# EAGLE library part 691386700009 (library Eagle_WR-TBL Pluggable Connector (rev21a))
WR-TBL Serie 386 - 5.00 mm Male PCB Header-Horizontal/Vertical Header Divisible KIND PROPERTIES Pitch 5 mm MATERIAL PROPERTIES Insulator Material PC Insulator Flammability Rating UL94 V-0 Contact Material Copper Alloy Contact Plating Tin over Nickel GENERAL INFORMATION Operating Temperature -30 up to +120 °C Compliance RoHS ELECTRICAL PROPERTIES IR UL 14 A IR VDE 16 A Working Voltage [UL] 300 V (AC) Working Voltage [VDE] 250 V (AC) Withstanding Voltage [cULus] 1600 V (AC) Withstanding Voltage [VDE] 2500 V (AC) Contact Resistance [cULus] 20 mΩ Contact Resistance [VDE] 20 mΩ CERTIFICATION cULus Approval E315414 VDE Approval 40023195 <https://www.we-online.com/catalog/media/o55398v209%20Family_WR-TBL_Serie_386_6913867000xx.jpg> Details see: https://www.we-online.com/catalog/en/TBL_5_00_386_HORIZONTAL_VERTICAL_HEADER_DIVISIBLE_MALE_PCB_HEADER_6913867000XX/ Updated by Ella Wu 2019-12-24 2019(C) Wurth Elektronik
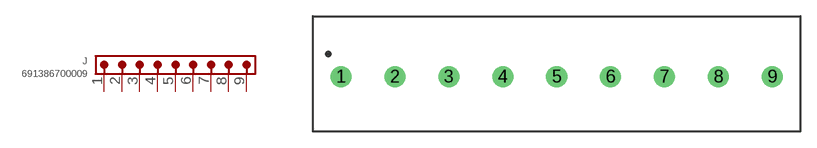
[diagram p203: symbol with the pads of 691386700009; footprint 691386700009]

Designator prefix J

## 691386700009 (DATASHEET-URL: https://www.we-online.com/catalog/datasheet/691386700009.pdf; IR-UL: 14A; IR-VDE: 16A; MOUNT: THT; PART-NUMBER: 691386700009; PINS: 9; PITCH: 5mm; TYPE: Horizontal/Vertical PCB Header; VALUE: 691386700009; WORKING-VOLTAGE-UL: 300V (AC); WORKING-VOLTAGE-VDE: 250V (AC))  [691386700009]
1  1  pas
2  2  pas
3  3  pas
4  4  pas
5  5  pas
6  6  pas
7  7  pas
8  8  pas
9  9  pas

## Footprint 691386700009 (pad centres in mm)
WR-TBL Serie 386 - 5.00 mm Male PCB Header-Horizontal/Vertical Header Divisible Max Height = 10.9mm , Pitch 5mm , 9pins
drill 1.3: 1 -20,0; 2 -15,0; 3 -10,0; 4 -5,0; 5 0,0; 6 5,0; 7 10,0; 8 15,0; 9 20,0